# EAGLE library part I__74*594 (library ..SMD)
8-bit SHIFT REGISTER, output latch
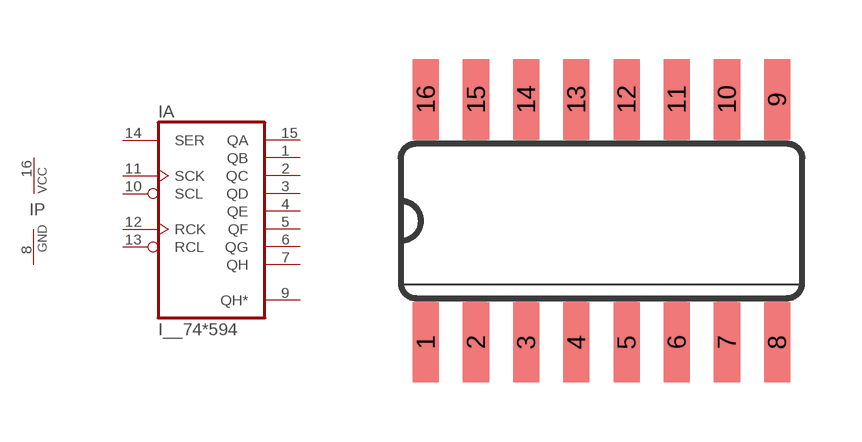
[diagram p319: symbol with the pads of SO16; footprint SO16]

Designator prefix I; gates A=74594 P=PWRN-2

## I__74HC594D, I__74HCT594D, I__74LS594D  [SO16]
1  A:QB  out
2  A:QC  out
3  A:QD  out
4  A:QE  out
5  A:QF  out
6  A:QG  out
7  A:QH  out
8  P:GND  pwr
9  A:QH*  out
10  A:SCL  in
11  A:SCK  in
12  A:RCK  in
13  A:RCL  in
14  A:SER  in
15  A:QA  out
16  P:VCC  pwr

## Footprint SO16 (pad centres in mm)
Small Outline Package 16
smd 0.66 x 2.032: 1 -4.445,-3.073; 2 -3.175,-3.073; 3 -1.905,-3.073; 4 -0.635,-3.073; 5 0.635,-3.073; 6 1.905,-3.073; 7 3.175,-3.073; 8 4.445,-3.073; 9 4.445,3.073; 10 3.175,3.073; 11 1.905,3.073; 12 0.635,3.073; 13 -0.635,3.073; 14 -1.905,3.073; 15 -3.175,3.073; 16 -4.445,3.073